# EAGLE library part 6532 (library 65xxx)
6532 RIOT
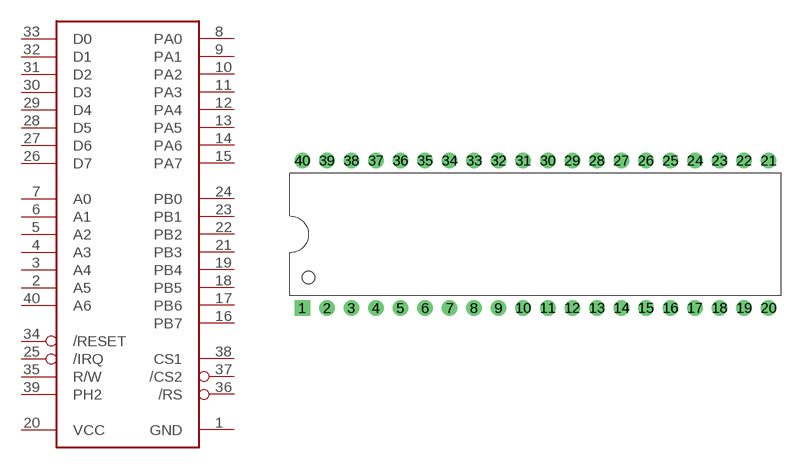
[diagram p6: symbol with the pads of DIP-40; footprint DIP-40]

Designator prefix -

## 6532  [DIP-40]
1  GND  pwr
2  A5  in
3  A4  in
4  A3  in
5  A2  in
6  A1  in
7  A0  in
8  PA0
9  PA1
10  PA2
11  PA3
12  PA4
13  PA5
14  PA6
15  PA7
16  PB7
17  PB6
18  PB5
19  PB4
20  VCC  pwr
21  PB3
22  PB2
23  PB1
24  PB0
25  /IRQ  out
26  D7
27  D6
28  D5
29  D4
30  D3
31  D2
32  D1
33  D0
34  /RESET  in
35  R/W  in
36  /RS  in
37  /CS2  in
38  CS1  in
39  PH2  in
40  A6  in

## Footprint DIP-40 (pad centres in mm)
40-Pin DIP, 0.6" Wide
drill 0.889 pad 1.6 square: 1 -22.86,-7.62
drill 0.889 pad 1.6: 2 -20.32,-7.62; 3 -17.78,-7.62; 4 -15.24,-7.62; 5 -12.7,-7.62; 6 -10.16,-7.62; 7 -7.62,-7.62; 8 -5.08,-7.62; 9 -2.54,-7.62; 10 0,-7.62; 11 2.54,-7.62; 12 5.08,-7.62; 13 7.62,-7.62; 14 10.16,-7.62; 15 12.7,-7.62; 16 15.24,-7.62; 17 17.78,-7.62; 18 20.32,-7.62; 19 22.86,-7.62; 20 25.4,-7.62; 21 25.4,7.62; 22 22.86,7.62; 23 20.32,7.62; 24 17.78,7.62; 25 15.24,7.62; 26 12.7,7.62; 27 10.16,7.62; 28 7.62,7.62; 29 5.08,7.62; 30 2.54,7.62; 31 0,7.62; 32 -2.54,7.62; 33 -5.08,7.62; 34 -7.62,7.62; 35 -10.16,7.62; 36 -12.7,7.62; 37 -15.24,7.62; 38 -17.78,7.62; 39 -20.32,7.62; 40 -22.86,7.62